# Altium schematic symbol library Capacitor_0402.SchLib: 4 symbols
Pins are listed as number, name and electrical type; pins without a type are passive.

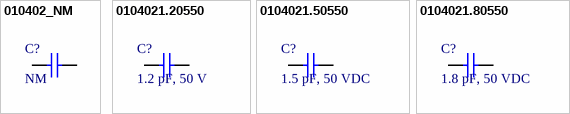
[diagram p0: symbols 010402_NM to 0104021.80550]

## 010402_NM
designator C?, comment NM
CAP, size 0402, NM, N/A; Capacitance: N/A; ComponentLink1Description: Datasheet; ComponentLink1URL: N/A; LCSC Part #: N/A; Manufacturer Part Number: N/A; Manufacturer: N/A; Mount: SMD/SMT; Operating Temperature Max: + 85 C; Operating Temperature Min: - 40 C; Package / Case: 0402; Packaging: Tape and Reel; Supplier 1 Part Number: N/A; Supplier 1 URL: N/A; Supplier 1: N/A; Supplier 2 Part Number: N/A; Supplier 2 URL: N/A; Supplier 2: N/A; Supplier 3 Part Number: N/A; Supplier 3 URL: N/A; Supplier 3: thegioiic; Tolerance: N/A; Value: NM; Voltage Rating DC: N/A
footprint CAP_0402 (Chip Capacitor, 2-Leads, Body 1.00x0.50mm, IPC Medium Density)
pins: 1, 2

## 0104021.20550
designator C?, comment 1.2 pF, 50 V
CAP, size 0402, 1.2 pF, 50 VDC, 5%; Manufacturer Part Number: CC0402BRNPO9BN1R2; Manufacturer: YAGEO; Capacitance: 1.2 pF; Tolerance: 0.1 pF; Value: 1.2 pF; Voltage Rating DC: 50 VDC; ComponentLink1Description: Datasheet; ComponentLink1URL: https://www.lcsc.com/datasheet/C327292.pdf?spm=wm.sxq.inf.ggs___wm.fly.bg.9.xh&lcsc_vid=FlkIUABWQVJeAgZfQwdWUlcFT1ZYUV1ST1deUwVWQ1IxVlNeT1ldUFNeRFBWUzsOAxUeFF5JWBYZEEoKFBINSQcJGk4%3D; LCSC Part #: C327292; Mount: SMD/SMT; Operating Temperature Max: + 125 C; Operating Temperature Min: - 55 C; Package / Case: 0402; Packaging: Tape and Reel; Supplier 1 Part Number: 603-CC402BRNPO9BN1R2; Supplier 1 URL: https://www.mouser.vn/en/ProductDetail/YAGEO/CC0402BRNPO9BN1R2?qs=AgBp2OyFlx8ony1%2FkRzieQ%3D%3D; Supplier 1: Mouser; Supplier 2 Part Number: 311-1615-2-ND; Supplier 2 URL: https://www.digikey.com/en/products/detail/yageo/CC0402BRNPO9BN1R2/5195024?s=N4IgTCBcDaIMJwAwBZFgEICUByAFA8gJzrYCMmEAugL5A; Supplier 2: Digikey; Supplier 3 Part Number: N/A; Supplier 3 URL: N/A; Supplier 3: thegioiic
footprint CAP_0402 (Chip Capacitor, 2-Leads, Body 1.00x0.50mm, IPC Medium Density)
pins: 1, 2

## 0104021.50550
designator C?, comment 1.5 pF, 50 VDC
CAP, size 0402, 1.5 pF, 50 VDC, 5%; Manufacturer Part Number: CC0402BRNPO9BN1R5; Manufacturer: YAGEO; Capacitance: 1.5 pF; Tolerance: 0.1 pF; Value: 1.5 pF; Voltage Rating DC: 50 VDC; ComponentLink1Description: Datasheet; ComponentLink1URL: https://www.lcsc.com/datasheet/C327292.pdf?spm=wm.sxq.inf.ggs___wm.fly.bg.9.xh&lcsc_vid=FlkIUABWQVJeAgZfQwdWUlcFT1ZYUV1ST1deUwVWQ1IxVlNeT1ldUFNeRFBWUzsOAxUeFF5JWBYZEEoKFBINSQcJGk4%3D; LCSC Part #: C282238; Mount: SMD/SMT; Operating Temperature Max: + 125 C; Operating Temperature Min: - 55 C; Package / Case: 0402; Packaging: Tape and Reel; Supplier 1 Part Number: 603-CC402BRNPO9BN1R5; Supplier 1 URL: https://www.mouser.vn/en/ProductDetail/YAGEO/CC0402BRNPO9BN1R5?qs=AgBp2OyFlx%252ByBP1VEqC3GQ%3D%3D; Supplier 1: Mouser; Supplier 2 Part Number: 311-3323-2-ND; Supplier 2 URL: https://www.digikey.com/en/products/detail/yageo/CC0402BRNPO9BN1R5/5883186?s=N4IgTCBcDaIMJwAwBZFgEICUByAFA8gJzrYCMmArCALoC%2BQA; Supplier 2: Digikey; Supplier 3 Part Number: N/A; Supplier 3 URL: N/A; Supplier 3: thegioiic
footprint CAP_0402 (Chip Capacitor, 2-Leads, Body 1.00x0.50mm, IPC Medium Density)
pins: 1, 2

## 0104021.80550
designator C?, comment 1.8 pF, 50 VDC
CAP, size 0402, 1.8 pF, 50 VDC, 5%; Manufacturer Part Number: CC0402BRNPO9BN1R8; Manufacturer: YAGEO; Capacitance: 1.8 pF; Tolerance: 0.1 pF; Value: 1.8 pF; Voltage Rating DC: 50 VDC; ComponentLink1Description: Datasheet; ComponentLink1URL: https://www.lcsc.com/datasheet/C327292.pdf?spm=wm.sxq.inf.ggs___wm.fly.bg.9.xh&lcsc_vid=FlkIUABWQVJeAgZfQwdWUlcFT1ZYUV1ST1deUwVWQ1IxVlNeT1ldUFNeRFBWUzsOAxUeFF5JWBYZEEoKFBINSQcJGk4%3D; LCSC Part #: C327209; Mount: SMD/SMT; Operating Temperature Max: + 125 C; Operating Temperature Min: - 55 C; Package / Case: 0402; Packaging: Tape and Reel; Supplier 1 Part Number: 603-CC402BRNPO9BN1R8; Supplier 1 URL: https://www.mouser.vn/en/ProductDetail/YAGEO/CC0402BRNPO9BN1R8?qs=AgBp2OyFlx8VN%2FS0nvE9PQ%3D%3D; Supplier 1: Mouser; Supplier 2 Part Number: 311-1616-2-ND; Supplier 2 URL: https://www.digikey.com/en/products/detail/yageo/CC0402BRNPO9BN1R8/5195025?s=N4IgTCBcDaIMJwAwBZFgEICUByAFA8gJzrYCMmAHCALoC%2BQA; Supplier 2: Digikey; Supplier 3 Part Number: N/A; Supplier 3 URL: N/A; Supplier 3: thegioiic
footprint CAP_0402 (Chip Capacitor, 2-Leads, Body 1.00x0.50mm, IPC Medium Density)
pins: 1, 2